# EAGLE library part BA5210FS (library Audio-Power-amlifier)
Speaker / headphone switch power amplifier
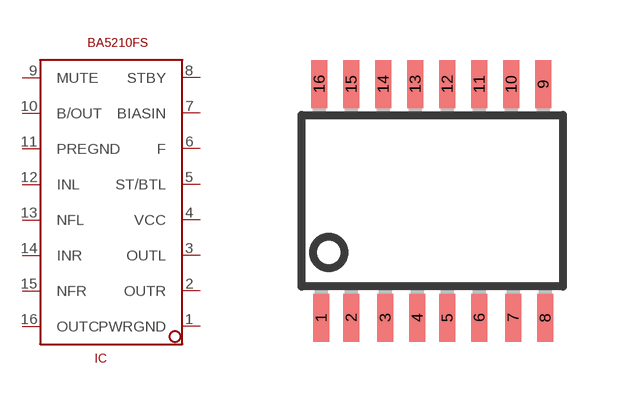
[diagram p40: symbol with the pads of SSOP-A16; footprint SSOP-A16]

Designator prefix IC

## BA5210FS  [SSOP-A16]
1  PWRGND  pwr
2  OUTR  out
3  OUTL  out
4  VCC  pwr
5  ST/BTL
6  F
7  BIASIN  in
8  STBY
9  MUTE
10  B/OUT  out
11  PREGND  pwr
12  INL  in
13  NFL
14  INR  in
15  NFR
16  OUTC  out

## Footprint SSOP-A16 (pad centres in mm)
Small Shrink Outline Package
smd 0.4 x 1.2: 1 -2.775,-2.925; 2 -2.025,-2.925; 3 -1.175,-2.925; 4 -0.375,-2.925; 5 0.375,-2.925; 6 1.175,-2.925; 7 2.025,-2.925; 8 2.825,-2.925; 9 2.775,2.925; 10 1.975,2.925; 11 1.175,2.925; 12 0.375,2.925; 13 -0.425,2.925; 14 -1.225,2.925; 15 -2.025,2.925; 16 -2.825,2.925